# EAGLE library part TPS55330 (library HyperTriangle)
The TPS55330 is a monolithic non-synchronous switching regulator with integrated 5-A, 24-V power switch. It can be configured in several standard switching-regulator topologies, including boost, SEPIC and isolated flyback. The device has a wide input voltage range to support applications with input voltage from multi-cell batteries or regulated 3.3-V, 5-V, and 12-V power rails.
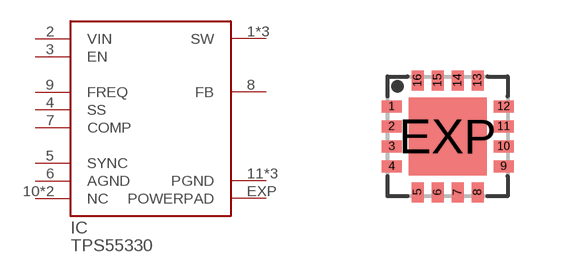
[diagram p4: symbol with the pads of QFN16; footprint QFN16]

Designator prefix IC

## TPS55330TRE  [QFN16]
1  SW  pwr
2  VIN  pwr
3  EN  in
4  SS
5  SYNC  in
6  AGND  pwr
7  COMP
8  FB  in
9  FREQ
10  NC  pwr
11  PGND  in
12  PGND  in
13  PGND  in
14  NC  pwr
15  SW  pwr
16  SW  pwr
EXP  POWERPAD  pwr

## Footprint QFN16 (pad centres in mm)
QFN 16 3x3 mm Source: www.hittite.com .. hmc492lp3.pdf
smd 0.5 x 0.3: 1 -1.4,0.75; 2 -1.4,0.25; 3 -1.4,-0.25; 4 -1.4,-0.75; 9 1.4,-0.75; 10 1.4,-0.25; 11 1.4,0.25; 12 1.4,0.75
smd 0.3 x 0.5: 5 -0.75,-1.4; 6 -0.25,-1.4; 7 0.25,-1.4; 8 0.75,-1.4; 13 0.75,1.4; 14 0.25,1.4; 15 -0.25,1.4; 16 -0.75,1.4
smd 1.95 x 1.95: EXP 0,0